# EAGLE library part IC-PCF8574T (library gclue)
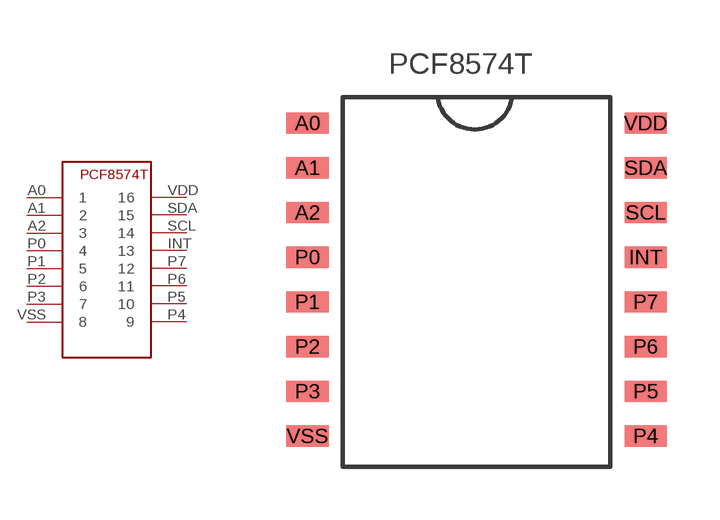
[diagram p10: symbol with the pads of SO16; footprint SO16]

Designator prefix -

## IC-PCF8574T  [SO16]
A0  1
A1  2
A2  3
INT  13
P0  4
P1  5
P2  6
P3  7
P4  9
P5  10
P6  11
P7  12
SCL  14
SDA  15
VDD  16
VSS  8

## Footprint SO16 (pad centres in mm)
smd 1.2 x 0.6: A0 -4.8,4.51; A1 -4.8,3.24; A2 -4.8,1.97; INT 4.8,0.7; P0 -4.8,0.7; P1 -4.8,-0.57; P2 -4.8,-1.84; P3 -4.8,-3.11; P4 4.8,-4.38; P5 4.8,-3.11; P6 4.8,-1.84; P7 4.8,-0.57; SCL 4.8,1.97; SDA 4.8,3.24; VDD 4.8,4.51; VSS -4.8,-4.38